# Altium footprint library RB168LAMusethisforyourdiodes.PcbLib: 1 footprints
Each footprint in its own frame and in the unit in brackets; x right, y up, seen from the top. Pads: shape width x height; smd on the part's side, far side on the other; paste and mask are expansions set on the pad; w line width, h text height; cw(c..) or ccw(c..) is an arc to the next point about the centre after c.
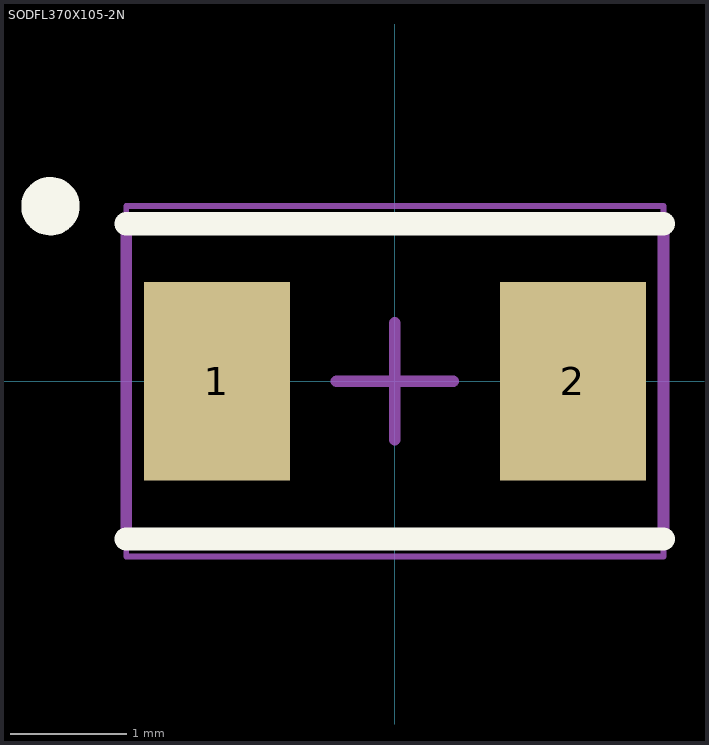
[diagram p0: the footprint, top view; thin cyan lines are the x and y axes]

## SODFL370X105-2N [mm] "SODFL, 2-Leads, Body 2.50x3.70mm, IPC Medium Density"
height 1.05
pads (2):
  rect 1.25x1.7 smd: 1(-1.525,0) 2(1.525,0)
Top Overlay:
  circle w0.25: c-2.95,1.5 r0.125
  lines w0.2: -2.3,-1.35 2.3,-1.35 ; -2.3,1.35 2.3,1.35
Mechanical 13:
  lines w0.1: -2.3,-1.35 2.3,-1.35 2.3,1.35 -2.3,1.35 -2.3,-1.35
Mechanical 15:
  lines w0.05: -2.3,-1.5 2.3,-1.5 2.3,1.5 -2.3,1.5 -2.3,-1.5
  lines w0.1: -0.5,0 0.5,0 ; 0,-0.5 0,0.5
3D body: height 1.05, standoff 0, extent -2.3,-1.35 2.3,1.35